# Altium footprint library CAPPRD200W55D500H1200.PcbLib: 1 footprints
Each footprint in its own frame and in the unit in brackets; x right, y up, seen from the top. Pads: shape width x height; smd on the part's side, far side on the other; paste and mask are expansions set on the pad; w line width, h text height; cw(c..) or ccw(c..) is an arc to the next point about the centre after c.
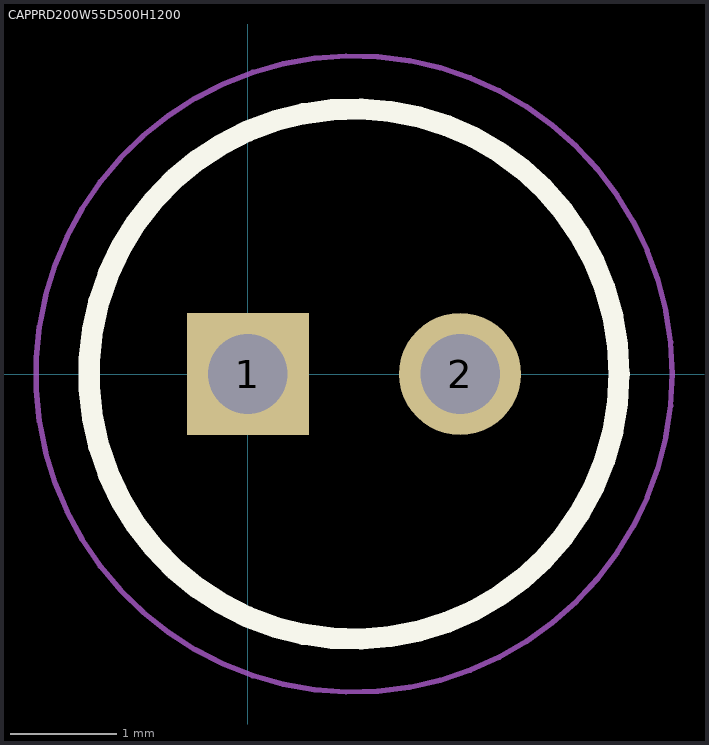
[diagram p0: the footprint, top view; thin cyan lines are the x and y axes]

## CAPPRD200W55D500H1200 [mm]
pads (2):
  rect 1.15x1.15 hole 0.75: 1(0,0)
  round 1.15 hole 0.75: 2(2,0)
Top Overlay:
  circle w0.2: c1,0 r2.5
Mechanical 15:
  circle w0.1: c1,0 r2.5
Mechanical 20:
  circle w0.05: c1,0 r3